# Altium footprint library FP-1825116-1-MFG.PcbLib: 1 footprints
Each footprint in its own frame and in the unit in brackets; x right, y up, seen from the top. Pads: shape width x height; smd on the part's side, far side on the other; paste and mask are expansions set on the pad; w line width, h text height; cw(c..) or ccw(c..) is an arc to the next point about the centre after c.
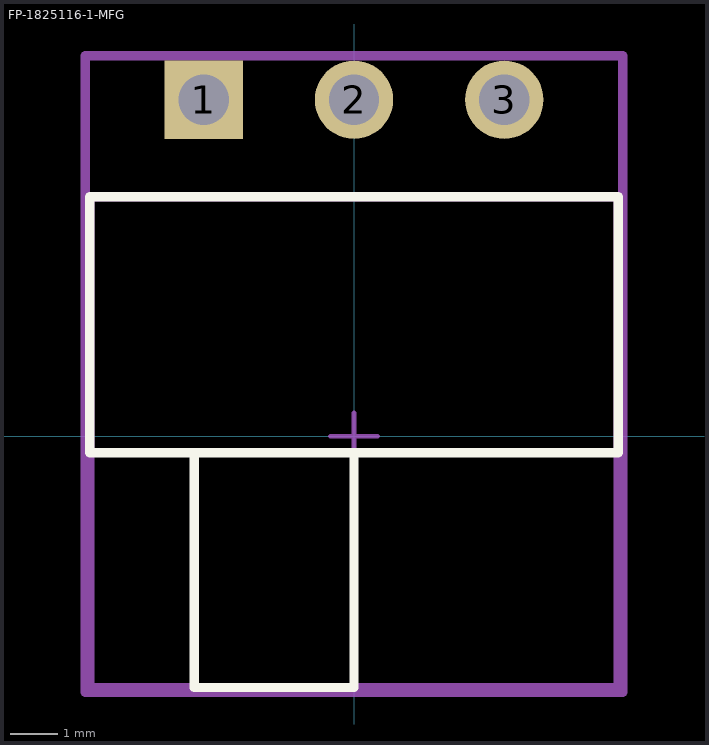
[diagram p0: the footprint, top view; thin cyan lines are the x and y axes]

## FP-1825116-1-MFG [mm]
pads (3):
  rect 1.67x1.67 hole 1.07 paste-1000 mask+0: 1(-3.2,7.165)
  round 1.67 hole 1.07 paste-1000 mask+0: 2(0,7.165) 3(3.2,7.165)
Top Overlay:
  lines w0.2: -5.625,-0.35 5.625,-0.35 5.625,5.1 -5.625,5.1 -5.625,-0.35 ; -3.4,-5.35 0,-5.35 0,-0.35 -3.4,-0.35 -3.4,-5.35
Mechanical 5:
  lines w0.2: -5.725,-5.45 5.725,-5.45 5.725,8.1 -5.725,8.1 -5.725,-5.45
  text ".Designator" at 0,1.324 h1
Mechanical 13:
  lines w0.2: -5.625,-5.35 5.625,-5.35 5.625,5.1 -5.625,5.1 -5.625,-5.35
Mechanical 15:
  lines w0.2: -5.725,-5.45 5.725,-5.45 5.725,8.1 -5.725,8.1 -5.725,-5.45
Mechanical 16:
  lines w0.1: -0.5,0 0.5,0 ; 0,-0.5 0,0.5
3D body "Switch_TE_Connectivity_1825116-1_eec.STEP": height 0.25, standoff 0, extent -5.725,-5.45 5.725,8.1